# Altium integrated library jeu_du_moulin_boura_INTLIB.IntLib: 10 symbols
Pins are listed as number, name and electrical type; pins without a type are passive.

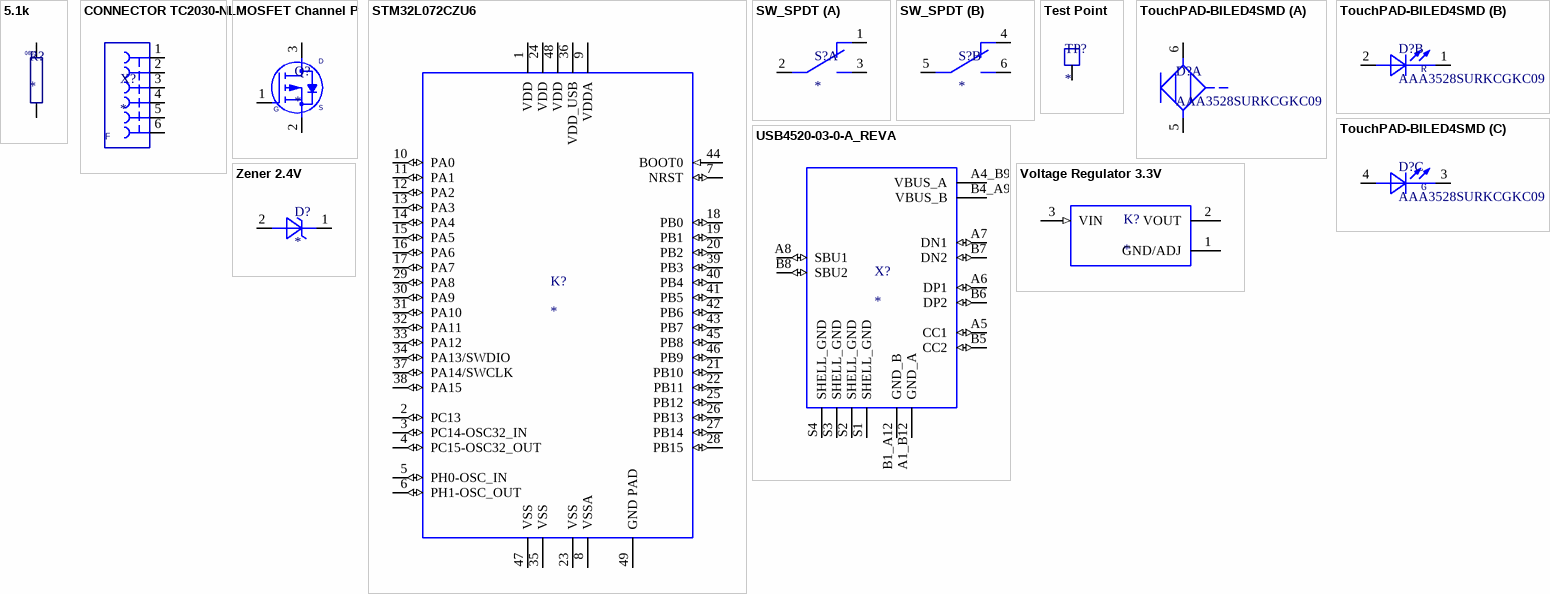
[diagram p0: symbols 5.1k to Zener 2.4V]

## 5.1k
designator R?
5.1 kOhms ±1% 0,1W, 1/10W Pavé résistif 0603 (1608 métrique) AutomobileAEC-Q200 Couche épaisse
footprint RSMD0603 (P1 - 0603)
pins: 1, 2
text: 0603

## CONNECTOR TC2030-NL
designator X?
Connecteur pour TC2030-NL
footprint T-Connect 2030
pins: 1 VDD VIOREF, 2 SWDIO, 3 NMVLR/RESET, 4 SWCLK, 5 GND, 6 SWO
text: F

## MOSFET Channel P
designator Q?
MOSFET Pch -80V -10A TO-252, Power MOSFET
footprint SOT95P240X88-3N
pins: 1 Gate, 2 Drain, 3 Source
text: D; S; G

## STM32L072CZU6
designator K?
IC MCU 32BIT 192KB FLASH UFQFPN48s
footprint UFQFPN48
pins: 1 VDD (power), 2 PC13 (io), 3 PC14-OSC32_IN (io), 4 PC15-OSC32_OUT (io), 5 PH0-OSC_IN (io), 6 PH1-OSC_OUT (io), 7 NRST (io), 8 VSSA (power), 9 VDDA (power), 10 PA0 (io), 11 PA1 (io), 12 PA2 (io), 13 PA3 (io), 14 PA4 (io), 15 PA5 (io), 16 PA6 (io), 17 PA7 (io), 18 PB0 (io), 19 PB1 (io), 20 PB2 (io), 21 PB10 (io), 22 PB11 (io), 23 VSS (power), 24 VDD (power), 25 PB12 (io), 26 PB13 (io), 27 PB14 (io), 28 PB15 (io), 29 PA8 (io), 30 PA9 (io), 31 PA10 (io), 32 PA11 (io), 33 PA12 (io), 34 PA13/SWDIO (io), 35 VSS (power), 36 VDD_USB (power), 37 PA14/SWCLK (io), 38 PA15 (io), 39 PB3 (io), 40 PB4 (io), 41 PB5 (io), 42 PB6 (io), 43 PB7 (io), 44 BOOT0 (in), 45 PB8 (io), 46 PB9 (io), 47 VSS (power), 48 VDD (power), 49 GND PAD (power)

## SW_SPDT
designator S?
Switch slide SPDT 300mA 6V
footprint Switch Slide DPDT
part A pins: 1, 2, 3
part B pins: 4, 5, 6

## Test Point
designator TP?
Point de Test SMD
footprint TP (point de test pour le eCompass)
pins: 1 a

## TouchPAD-BILED4SMD
designator D?, comment AAA3528SURKCGKC09
footprint TouchPAD-8mm+LED 4-SMD CIR
part A pins: 5 TPAD, 6 TPAD
part B pins: 1 CATHODE, 2 ANODE
part C pins: 3 CATHODE, 4 ANODE
part B text: R
part C text: G

## USB4520-03-0-A_REVA
designator X?
USB-C (USB TYPE-C) USB 2.0 Receptacle Connector 24 (16+8 Dummy) Position Board Edge, Cutout; Surface Mount; Through Hole, Right Angle
footprint GCT_USB4520-03-0-A_REVA (USB-C)
pins: A1_B12 GND_A (power), A4_B9 VBUS_A (power), A5 CC1 (io), A6 DP1 (io), A7 DN1 (io), A8 SBU1 (io), B1_A12 GND_B (power), B4_A9 VBUS_B (power), B5 CC2 (io), B6 DP2 (io), B7 DN2 (io), B8 SBU2 (io), S1 SHELL_GND (power), S2 SHELL_GND (power), S3 SHELL_GND (power), S4 SHELL_GND (power)

## Voltage Regulator 3.3V
designator K?
3.3-Volt Low Drop Out Voltage Regulatator
footprint SOT95P240X88-3N
pins: 1 GND/ADJ (power), 2 VOUT (power), 3 VIN (in)

## Zener 2.4V
designator D?
Diodes - Zener 2.4 V 500 mW ±5% Montage en surface SOD-123
footprint SOD-123
pins: 1 CATHODE, 2 ANODE